# Altium footprint library Terminal.PcbLib: 35 footprints (part 2 of 3)
Each footprint in its own frame and in the unit in brackets; x right, y up, seen from the top. Pads: shape width x height; smd on the part's side, far side on the other; paste and mask are expansions set on the pad; w line width, h text height; cw(c..) or ccw(c..) is an arc to the next point about the centre after c.
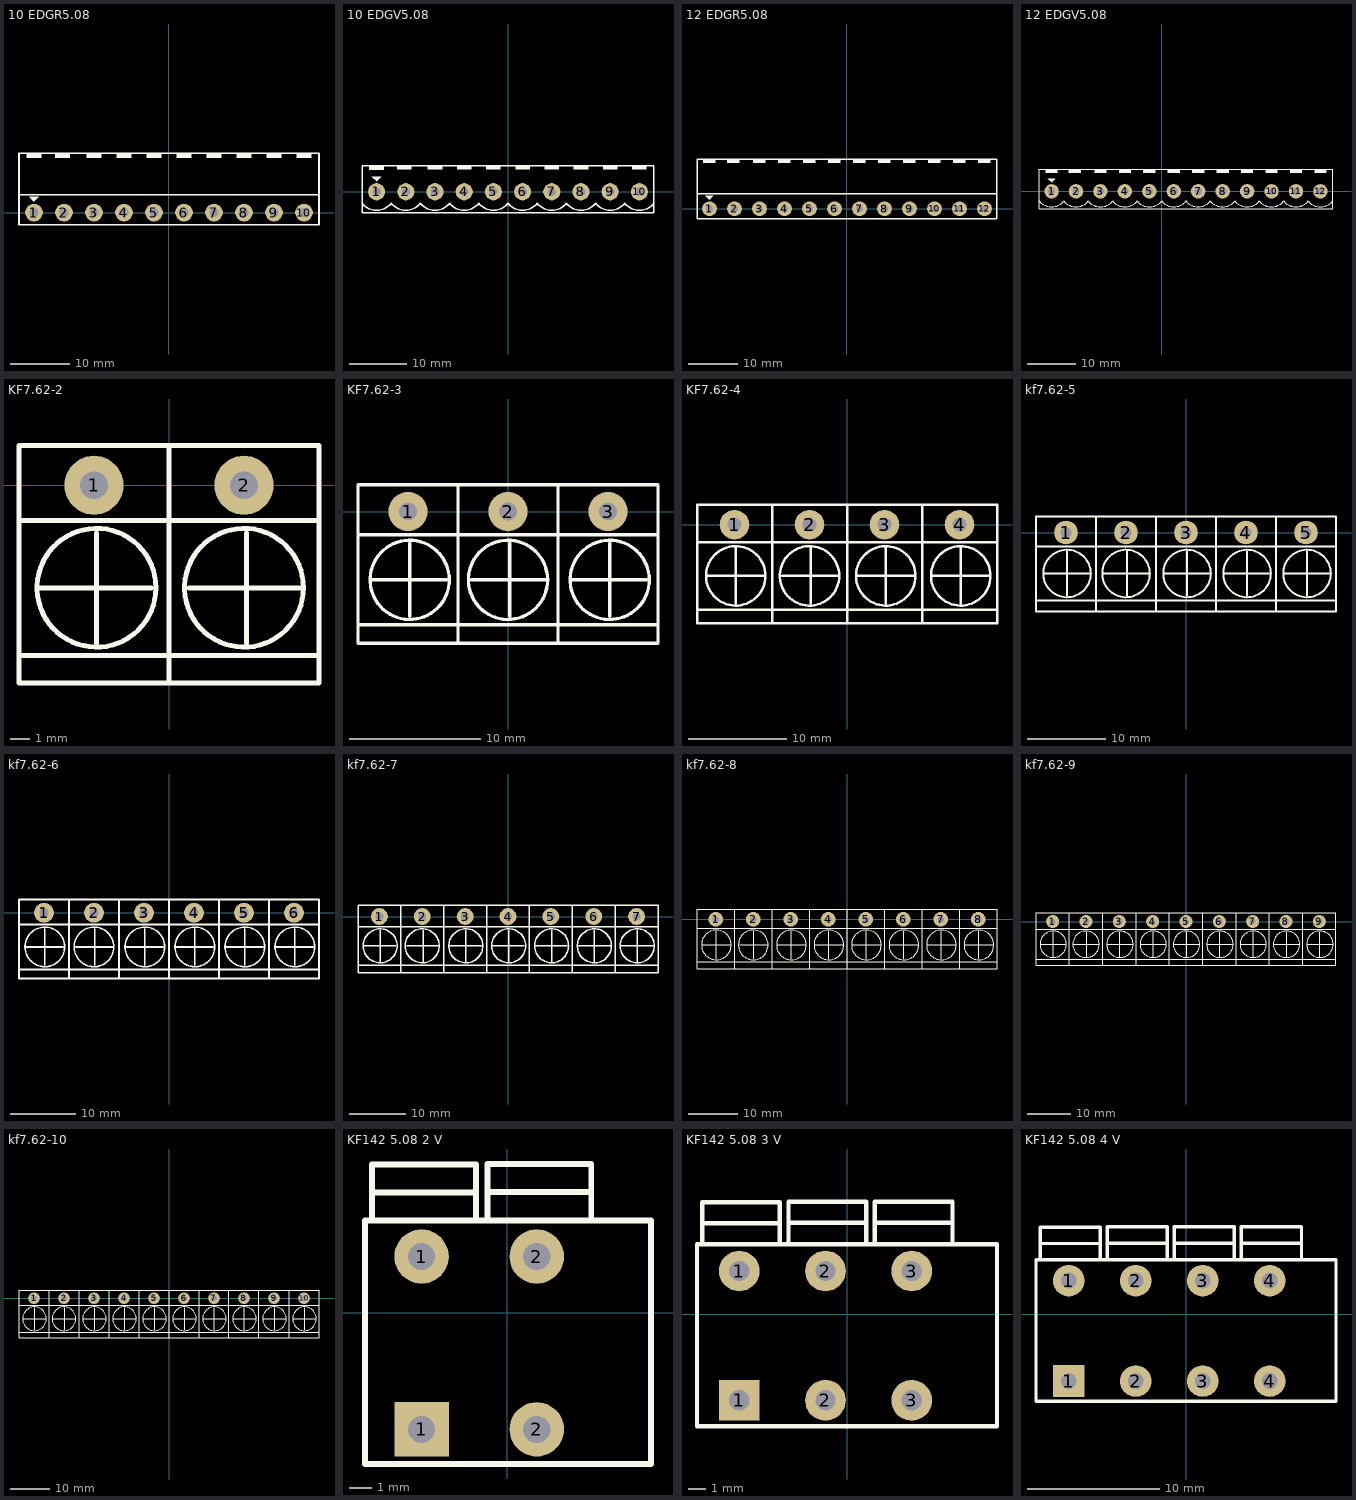
[diagram p1: the footprints below, top view; thin cyan lines are the x and y axes]

## 10 EDGR5.08 [mm]
pads (10):
  round 3 hole 1.5: 1(-22.86,0) 2(-17.78,0) 3(-12.7,0) 4(-7.62,0) 5(-2.54,0) 6(2.54,0) 7(7.62,0) 8(12.7,0) 9(17.78,0) 10(22.86,0)
Top Overlay:
  region: 19.05,10.033 16.51,10.033 16.51,9.271 19.05,9.271
  region: -21.613,10.015 -24.153,10.015 -24.153,9.253 -21.613,9.253
  region: 3.81,10.033 1.27,10.033 1.27,9.271 3.81,9.271
  region: -1.27,10.033 -3.81,10.033 -3.81,9.271 -1.27,9.271
  region: -6.35,10.033 -8.89,10.033 -8.89,9.271 -6.35,9.271
  region: -11.43,10.033 -13.97,10.033 -13.97,9.271 -11.43,9.271
  region: -16.764,10.033 -19.304,10.033 -19.304,9.271 -16.764,9.271
  region: 13.97,10.033 11.43,10.033 11.43,9.271 13.97,9.271
  region: 8.89,10.033 6.35,10.033 6.35,9.271 8.89,9.271
  region: 24.13,10.033 21.59,10.033 21.59,9.271 24.13,9.271
  region: -23.673,2.652 -22.047,2.652 -22.86,1.839
  lines w0.254: -25.375,3.025 25.4,3.025 ; -25.4,-2.032 -25.4,10.033 25.4,10.033 25.4,-2.032 -25.4,-2.032
3D body "cim0x9m5_right.step": height 8.48, standoff -3.38, extent 20.32,-2 25.4,10
3D body "cim0x9m5_right.step": height 8.48, standoff -3.38, extent 10.16,-2 15.24,10
3D body "cim0x9m5_right.step": height 8.48, standoff -3.38, extent 5.08,-2 10.16,10
3D body "cim0x9m5_right.step": height 8.48, standoff -3.38, extent 0,-2 5.08,10
3D body "cim0x9m5_right.step": height 8.48, standoff -3.38, extent -5.08,-2 0,10
3D body "cim0x9m5_right.step": height 8.48, standoff -3.38, extent -10.16,-2 -5.08,10
3D body "cim0x9m5_right.step": height 8.48, standoff -3.38, extent -15.24,-2 -10.16,10
3D body "cim0x9m5_right.step": height 8.48, standoff -3.38, extent -20.32,-2 -15.24,10
3D body "cim0x9m5_right.step": height 8.48, standoff -3.38, extent -25.4,-2 -20.32,10
3D body "cim0x9m5_right.step": height 8.48, standoff -3.38, extent 15.24,-2 20.32,10

## 10 EDGV5.08 [mm]
pads (10):
  round 3 hole 1.5: 1(-22.86,0) 2(-17.78,0) 3(-12.7,0) 4(-7.62,0) 5(-2.54,0) 6(2.54,0) 7(7.62,0) 8(12.7,0) 9(17.78,0) 10(22.86,0)
Top Overlay:
  region: 19.05,4.595 16.51,4.595 16.51,3.833 19.05,3.833
  region: -21.613,4.577 -24.153,4.577 -24.153,3.815 -21.613,3.815
  region: 3.81,4.595 1.27,4.595 1.27,3.833 3.81,3.833
  region: -1.27,4.595 -3.81,4.595 -3.81,3.833 -1.27,3.833
  region: -6.35,4.595 -8.89,4.595 -8.89,3.833 -6.35,3.833
  region: -11.43,4.595 -13.97,4.595 -13.97,3.833 -11.43,3.833
  region: -16.764,4.595 -19.304,4.595 -19.304,3.833 -16.764,3.833
  region: 13.97,4.595 11.43,4.595 11.43,3.833 13.97,3.833
  region: 8.89,4.595 6.35,4.595 6.35,3.833 8.89,3.833
  region: 24.13,4.595 21.59,4.595 21.59,3.833 24.13,3.833
  region: -23.673,2.652 -22.047,2.652 -22.86,1.839
  lines w0.254: -25.397,-2.012 ccw(c-22.86,0) -20.32,-2.008 ; -20.319,-2.009 ccw(c-17.78,0) -15.243,-2.012 ; -15.237,-2.012 ccw(c-12.7,0) -10.16,-2.008 ; -10.159,-2.009 ccw(c-7.62,0) -5.083,-2.012 ; -5.077,-2.012 ccw(c-2.54,0) 0,-2.008 ; 0.001,-2.009 ccw(c2.54,0) 5.077,-2.012 ; 5.083,-2.012 ccw(c7.62,0) 10.16,-2.008 ; 10.161,-2.009 ccw(c12.7,0) 15.237,-2.012 ; 15.243,-2.012 ccw(c17.78,0) 20.32,-2.008 ; 20.321,-2.009 ccw(c22.86,0) 25.397,-2.012 ; -25.4,-3.638 25.4,-3.638 25.4,4.562 -25.4,4.562 -25.4,-3.638
3D body "2EDGV-5.08-10P.stp": height 12.23, standoff -3.87, extent -25.4,-3.638 25.4,4.562

## 12 EDGR5.08 [mm]
pads (12):
  round 3 hole 1.5: 1(-27.94,0) 2(-22.86,0) 3(-17.78,0) 4(-12.7,0) 5(-7.62,0) 6(-2.54,0) 7(2.54,0) 8(7.62,0) 9(12.7,0) 10(17.78,0) 11(22.86,0) 12(27.94,0)
Top Overlay:
  region: 29.21,10.033 26.67,10.033 26.67,9.271 29.21,9.271
  region: 24.13,10.033 21.59,10.033 21.59,9.271 24.13,9.271
  region: 13.97,10.033 11.43,10.033 11.43,9.271 13.97,9.271
  region: -26.693,10.015 -29.233,10.015 -29.233,9.253 -26.693,9.253
  region: -1.27,10.033 -3.81,10.033 -3.81,9.271 -1.27,9.271
  region: -6.35,10.033 -8.89,10.033 -8.89,9.271 -6.35,9.271
  region: -11.43,10.033 -13.97,10.033 -13.97,9.271 -11.43,9.271
  region: -16.51,10.033 -19.05,10.033 -19.05,9.271 -16.51,9.271
  region: -21.844,10.033 -24.384,10.033 -24.384,9.271 -21.844,9.271
  region: 8.89,10.033 6.35,10.033 6.35,9.271 8.89,9.271
  region: 3.81,10.033 1.27,10.033 1.27,9.271 3.81,9.271
  region: 19.05,10.033 16.51,10.033 16.51,9.271 19.05,9.271
  region: -28.753,2.652 -27.127,2.652 -27.94,1.839
  lines w0.254: -30.455,3.025 30.48,3.025 ; -30.48,-2.032 -30.48,10.033 30.48,10.033 30.48,-2.032 -30.48,-2.032
3D body "cim0x9m5_right.step": height 8.48, standoff -3.38, extent -30.48,-2 -25.4,10
3D body "cim0x9m5_right.step": height 8.48, standoff -3.38, extent -25.4,-2 -20.32,10
3D body "cim0x9m5_right.step": height 8.48, standoff -3.38, extent -20.32,-2 -15.24,10
3D body "cim0x9m5_right.step": height 8.48, standoff -3.38, extent -15.24,-2 -10.16,10
3D body "cim0x9m5_right.step": height 8.48, standoff -3.38, extent -10.16,-2 -5.08,10
3D body "cim0x9m5_right.step": height 8.48, standoff -3.38, extent -5.08,-2 0,10
3D body "cim0x9m5_right.step": height 8.48, standoff -3.38, extent 0,-2 5.08,10
3D body "cim0x9m5_right.step": height 8.48, standoff -3.38, extent 5.08,-2 10.16,10
3D body "cim0x9m5_right.step": height 8.48, standoff -3.38, extent 10.16,-2 15.24,10
3D body "cim0x9m5_right.step": height 8.48, standoff -3.38, extent 15.24,-2 20.32,10
3D body "cim0x9m5_right.step": height 8.48, standoff -3.38, extent 20.32,-2 25.4,10
3D body "cim0x9m5_right.step": height 8.48, standoff -3.38, extent 25.4,-2 30.48,10

## 12 EDGV5.08 [mm]
pads (12):
  round 3 hole 1.5: 1(-22.86,0) 2(-17.78,0) 3(-12.7,0) 4(-7.62,0) 5(-2.54,0) 6(2.54,0) 7(7.62,0) 8(12.7,0) 9(17.78,0) 10(22.86,0) 11(27.94,0) 12(33.02,0)
Top Overlay:
  region: 29.21,4.595 26.67,4.595 26.67,3.833 29.21,3.833
  region: 34.29,4.595 31.75,4.595 31.75,3.833 34.29,3.833
  region: 19.05,4.595 16.51,4.595 16.51,3.833 19.05,3.833
  region: -21.613,4.577 -24.153,4.577 -24.153,3.815 -21.613,3.815
  region: 3.81,4.595 1.27,4.595 1.27,3.833 3.81,3.833
  region: -1.27,4.595 -3.81,4.595 -3.81,3.833 -1.27,3.833
  region: -6.35,4.595 -8.89,4.595 -8.89,3.833 -6.35,3.833
  region: -11.43,4.595 -13.97,4.595 -13.97,3.833 -11.43,3.833
  region: -16.764,4.595 -19.304,4.595 -19.304,3.833 -16.764,3.833
  region: 13.97,4.595 11.43,4.595 11.43,3.833 13.97,3.833
  region: 8.89,4.595 6.35,4.595 6.35,3.833 8.89,3.833
  region: 24.13,4.595 21.59,4.595 21.59,3.833 24.13,3.833
  region: -23.673,2.652 -22.047,2.652 -22.86,1.839
  lines w0.254: -25.397,-2.012 ccw(c-22.86,0) -20.32,-2.008 ; -20.319,-2.009 ccw(c-17.78,0) -15.243,-2.012 ; -15.237,-2.012 ccw(c-12.7,0) -10.16,-2.008 ; -10.159,-2.009 ccw(c-7.62,0) -5.083,-2.012 ; -5.077,-2.012 ccw(c-2.54,0) 0,-2.008 ; 0.001,-2.009 ccw(c2.54,0) 5.077,-2.012 ; 5.083,-2.012 ccw(c7.62,0) 10.16,-2.008 ; 10.161,-2.009 ccw(c12.7,0) 15.237,-2.012 ; 15.243,-2.012 ccw(c17.78,0) 20.32,-2.008 ; 20.321,-2.009 ccw(c22.86,0) 25.397,-2.012 ; 25.403,-2.012 ccw(c27.94,0) 30.48,-2.008 ; 30.481,-2.009 ccw(c33.02,0) 35.557,-2.012 ; -25.4,-3.638 35.56,-3.638 35.56,4.562 -25.4,4.562 -25.4,-3.638
3D body "2EDGV-5.08-02P.stp": height 12.23, standoff -3.87, extent 25.4,-3.638 35.56,4.562
3D body "2EDGV-5.08-10P.stp": height 12.23, standoff -3.87, extent -25.4,-3.638 25.4,4.562

## KF7.62-2 [mm]
pads (2):
  round 3 hole 1.4: 1(-3.81,0) 2(3.81,0)
Top Overlay:
  circle w0.254: c-3.683,-5.207 r3.019
  circle w0.254: c3.81,-5.207 r3.019
  lines w0.254: -7.62,-8.636 7.62,-8.636 ; -7.62,-1.778 -0.127,-1.778 7.62,-1.778 ; -6.604,-5.207 -0.889,-5.207 ; -3.683,-8.001 -3.683,-2.413 ; 0,-10.033 0,2.032 ; 1.016,-5.207 6.731,-5.207 ; 3.937,-8.001 3.937,-2.413 ; -7.62,-10.033 7.62,-10.033 7.62,2.032 -7.62,2.032 -7.62,0 -7.62,-10.033
3D body "KF7.62-2P.step": height 12.53, standoff -3.87, extent -7.62,-10 7.62,2

## KF7.62-3 [mm]
pads (3):
  round 3 hole 1.4: 1(-7.62,0) 2(0,0) 3(7.62,0)
Top Overlay:
  circle w0.254: c7.747,-5.207 r3.019
  circle w0.254: c0,-5.207 r3.019
  circle w0.254: c-7.493,-5.207 r3.019
  lines w0.254: -11.43,-8.636 11.303,-8.636 ; -11.43,-1.778 -3.937,-1.778 3.81,-1.778 11.303,-1.778 ; -10.414,-5.207 -4.699,-5.207 ; -7.493,-8.001 -7.493,-2.413 ; -3.81,-10.033 -3.81,2.032 ; -2.794,-5.207 2.921,-5.207 ; 0.127,-8.001 0.127,-2.413 ; 4.826,-5.207 10.541,-5.207 ; 7.747,-8.001 7.747,-2.413 ; 3.81,-10.033 11.43,-10.033 11.43,2.032 3.81,2.032 ; 3.81,-10.033 3.81,0 3.81,2.032 ; 3.81,-10.033 -11.43,-10.033 -11.43,0 -11.43,2.032 3.81,2.032
3D body "KF7.62-3P.step": height 12.53, standoff -3.87, extent -11.43,-10 11.43,2

## KF7.62-4 [mm]
pads (4):
  round 3 hole 1.4: 1(-11.43,0) 2(-3.81,0) 3(3.81,0) 4(11.43,0)
Top Overlay:
  circle w0.254: c3.937,-5.207 r3.019
  circle w0.254: c-3.81,-5.207 r3.019
  circle w0.254: c-11.303,-5.207 r3.019
  circle w0.254: c11.557,-5.207 r3.019
  lines w0.254: -15.24,-8.636 15.24,-8.636 ; -15.24,-1.778 -7.747,-1.778 0,-1.778 7.62,-1.778 15.24,-1.778 ; -14.224,-5.207 -8.509,-5.207 ; -11.303,-8.001 -11.303,-2.413 ; -7.62,-10.033 -7.62,2.032 ; -6.604,-5.207 -0.889,-5.207 ; -3.683,-8.001 -3.683,-2.413 ; 1.016,-5.207 6.731,-5.207 ; 3.937,-8.001 3.937,-2.413 ; 8.636,-5.207 14.351,-5.207 ; 11.557,-8.001 11.557,-2.413 ; 0,-10.033 7.62,-10.033 ; 0,-10.033 0,0 0,2.032 ; 0,-10.033 -15.24,-10.033 -15.24,0 -15.24,2.032 0,2.032 ; 0,2.032 7.62,2.032 ; 7.62,-10.033 7.62,2.032 ; 7.62,-10.033 15.24,-10.033 15.24,2.032 7.62,2.032
3D body "KF7.62-4P.step": height 12.53, standoff -3.87, extent -15.24,-10 15.24,2

## kf7.62-5 [mm]
pads (5):
  round 3 hole 1.4: 1(-15.24,0) 2(-7.62,0) 3(0,0) 4(7.62,0) 5(15.24,0)
Top Overlay:
  circle w0.254: c7.747,-5.207 r3.019
  circle w0.254: c-15.113,-5.207 r3.019
  circle w0.254: c-7.62,-5.207 r3.019
  circle w0.254: c0.127,-5.207 r3.019
  circle w0.254: c15.367,-5.207 r3.019
  lines w0.254: -19.05,-8.636 19.05,-8.636 ; -19.05,-1.778 -11.557,-1.778 -3.81,-1.778 3.81,-1.778 11.43,-1.778 19.05,-1.778 ; -18.034,-5.207 -12.319,-5.207 ; -15.113,-8.001 -15.113,-2.413 ; -11.43,-10.033 -11.43,2.032 ; -10.414,-5.207 -4.699,-5.207 ; -7.493,-8.001 -7.493,-2.413 ; -2.794,-5.207 2.921,-5.207 ; 0.127,-8.001 0.127,-2.413 ; 4.826,-5.207 10.541,-5.207 ; 7.747,-8.001 7.747,-2.413 ; 12.446,-5.207 18.161,-5.207 ; 15.367,-8.001 15.367,-2.413 ; -3.81,-10.033 -19.05,-10.033 -19.05,0 -19.05,2.032 -3.81,2.032 ; -3.81,-10.033 -3.81,0 -3.81,2.032 ; -3.81,-10.033 3.81,-10.033 ; -3.81,2.032 3.81,2.032 ; 3.81,-10.033 11.43,-10.033 ; 3.81,-10.033 3.81,2.032 ; 3.81,2.032 11.43,2.032 ; 11.43,-10.033 11.43,2.032 ; 11.43,-10.033 19.05,-10.033 19.05,2.032 11.43,2.032
3D body "KF7.62-5P.step": height 12.53, standoff -3.87, extent -19.05,-10 19.05,2

## kf7.62-6 [mm]
pads (6):
  round 3 hole 1.4: 1(-19.05,0) 2(-11.43,0) 3(-3.81,0) 4(3.81,0) 5(11.43,0) 6(19.05,0)
Top Overlay:
  circle w0.254: c3.937,-5.207 r3.019
  circle w0.254: c-18.923,-5.207 r3.019
  circle w0.254: c-11.43,-5.207 r3.019
  circle w0.254: c-3.683,-5.207 r3.019
  circle w0.254: c19.177,-5.207 r3.019
  circle w0.254: c11.557,-5.207 r3.019
  lines w0.254: -22.86,-8.636 22.733,-8.636 ; -22.86,-1.778 -15.367,-1.778 -7.62,-1.778 0,-1.778 7.62,-1.778 15.24,-1.778 22.86,-1.778 ; -21.844,-5.207 -16.129,-5.207 ; -18.923,-8.001 -18.923,-2.413 ; -15.24,-10.033 -15.24,2.032 ; -14.224,-5.207 -8.509,-5.207 ; -11.303,-8.001 -11.303,-2.413 ; -6.604,-5.207 -0.889,-5.207 ; -3.683,-8.001 -3.683,-2.413 ; 1.016,-5.207 6.731,-5.207 ; 3.937,-8.001 3.937,-2.413 ; 8.636,-5.207 14.351,-5.207 ; 11.557,-8.001 11.557,-2.413 ; 16.256,-5.207 21.971,-5.207 ; 19.177,-8.001 19.177,-2.413 ; -7.62,-10.033 -22.86,-10.033 -22.86,0 -22.86,2.032 -7.62,2.032 ; -7.62,-10.033 -7.62,0 -7.62,2.032 ; -7.62,-10.033 0,-10.033 ; -7.62,2.032 0,2.032 ; 0,-10.033 7.62,-10.033 ; 0,-10.033 0,2.032 ; 0,2.032 7.62,2.032 ; 7.62,-10.033 7.62,2.032 ; 7.62,-10.033 15.24,-10.033 ; 7.62,2.032 15.24,2.032 ; 15.24,-10.033 22.86,-10.033 22.86,2.032 15.24,2.032 ; 15.24,-10.033 15.24,2.032
3D body "KF7.62-6P.step": height 12.53, standoff -3.87, extent -22.86,-10 22.86,2

## kf7.62-7 [mm]
pads (7):
  round 3 hole 1.4: 1(-22.86,0) 2(-15.24,0) 3(-7.62,0) 4(0,0) 5(7.62,0) 6(15.24,0) 7(22.86,0)
Top Overlay:
  circle w0.254: c7.747,-5.207 r3.019
  circle w0.254: c15.367,-5.207 r3.019
  circle w0.254: c-7.493,-5.207 r3.019
  circle w0.254: c-15.24,-5.207 r3.019
  circle w0.254: c-22.733,-5.207 r3.019
  circle w0.254: c0.127,-5.207 r3.019
  circle w0.254: c22.987,-5.207 r3.019
  lines w0.254: -26.67,-8.636 26.67,-8.636 ; -26.67,-1.778 -19.177,-1.778 -11.43,-1.778 -3.81,-1.778 3.81,-1.778 11.43,-1.778 19.05,-1.778 26.67,-1.778 ; -25.654,-5.207 -19.939,-5.207 ; -22.733,-8.001 -22.733,-2.413 ; -19.05,-10.033 -19.05,2.032 ; -18.034,-5.207 -12.319,-5.207 ; -15.113,-8.001 -15.113,-2.413 ; -10.414,-5.207 -4.699,-5.207 ; -7.493,-8.001 -7.493,-2.413 ; -2.794,-5.207 2.921,-5.207 ; 0.127,-8.001 0.127,-2.413 ; 4.826,-5.207 10.541,-5.207 ; 7.747,-8.001 7.747,-2.413 ; 12.446,-5.207 18.161,-5.207 ; 15.367,-8.001 15.367,-2.413 ; 20.066,-5.207 25.781,-5.207 ; 22.987,-8.001 22.987,-2.413 ; -11.43,-10.033 -3.81,-10.033 ; -11.43,-10.033 -11.43,0 -11.43,2.032 ; -11.43,-10.033 -26.67,-10.033 -26.67,0 -26.67,2.032 -11.43,2.032 ; -11.43,2.032 -3.81,2.032 ; -3.81,-10.033 -3.81,2.032 ; -3.81,-10.033 3.81,-10.033 ; -3.81,2.032 3.81,2.032 ; 3.81,-10.033 11.43,-10.033 ; 3.81,-10.033 3.81,2.032 ; 3.81,2.032 11.43,2.032 ; 11.43,-10.033 11.43,2.032 ; 11.43,-10.033 19.05,-10.033 ; 11.43,2.032 19.05,2.032 ; 19.05,-10.033 19.05,2.032 ; 19.05,-10.033 26.67,-10.033 26.67,2.032 19.05,2.032
3D body "KF7.62-7P.step": height 12.4, standoff -4, extent -26.67,-10 26.67,2

## kf7.62-8 [mm]
pads (8):
  round 3 hole 1.4: 1(-26.67,0) 2(-19.05,0) 3(-11.43,0) 4(-3.81,0) 5(3.81,0) 6(11.43,0) 7(19.05,0) 8(26.67,0)
Top Overlay:
  circle w0.254: c3.937,-5.207 r3.019
  circle w0.254: c11.557,-5.207 r3.019
  circle w0.254: c-11.303,-5.207 r3.019
  circle w0.254: c-19.05,-5.207 r3.019
  circle w0.254: c-26.543,-5.207 r3.019
  circle w0.254: c-3.683,-5.207 r3.019
  circle w0.254: c19.177,-5.207 r3.019
  circle w0.254: c26.797,-5.207 r3.019
  lines w0.254: -30.48,-8.636 30.353,-8.636 ; -30.48,-1.778 -22.987,-1.778 -15.24,-1.778 -7.62,-1.778 0,-1.778 7.62,-1.778 15.24,-1.778 22.86,-1.778 30.48,-1.778 ; -29.464,-5.207 -23.749,-5.207 ; -26.543,-8.001 -26.543,-2.413 ; -22.86,-10.033 -22.86,2.032 ; -21.844,-5.207 -16.129,-5.207 ; -18.923,-8.001 -18.923,-2.413 ; -14.224,-5.207 -8.509,-5.207 ; -11.303,-8.001 -11.303,-2.413 ; -6.604,-5.207 -0.889,-5.207 ; -3.683,-8.001 -3.683,-2.413 ; 1.016,-5.207 6.731,-5.207 ; 3.937,-8.001 3.937,-2.413 ; 8.636,-5.207 14.351,-5.207 ; 11.557,-8.001 11.557,-2.413 ; 16.256,-5.207 21.971,-5.207 ; 19.177,-8.001 19.177,-2.413 ; 23.876,-5.207 29.591,-5.207 ; 26.797,-8.001 26.797,-2.413 ; -15.24,-10.033 -7.62,-10.033 ; -15.24,-10.033 -15.24,0 -15.24,2.032 ; -15.24,-10.033 -30.48,-10.033 -30.48,0 -30.48,2.032 -15.24,2.032 ; -15.24,2.032 -7.62,2.032 ; -7.62,-10.033 -7.62,2.032 ; -7.62,-10.033 0,-10.033 ; -7.62,2.032 0,2.032 ; 0,-10.033 7.62,-10.033 ; 0,-10.033 0,2.032 ; 0,2.032 7.62,2.032 ; 7.62,-10.033 7.62,2.032 ; 7.62,-10.033 15.24,-10.033 ; 7.62,2.032 15.24,2.032 ; 15.24,-10.033 15.24,2.032 ; 15.24,-10.033 22.86,-10.033 ; 15.24,2.032 22.86,2.032 ; 22.86,-10.033 22.86,2.032 ; 22.86,-10.033 30.48,-10.033 30.48,2.032 22.86,2.032
3D body "KF7.62-8P.step": height 12.53, standoff -3.87, extent -30.48,-10 30.48,2

## kf7.62-9 [mm]
pads (9):
  round 3 hole 1.4: 1(-30.48,0) 2(-22.86,0) 3(-15.24,0) 4(-7.62,0) 5(0,0) 6(7.62,0) 7(15.24,0) 8(22.86,0) 9(30.48,0)
Top Overlay:
  circle w0.254: c22.987,-5.207 r3.019
  circle w0.254: c15.367,-5.207 r3.019
  circle w0.254: c30.607,-5.207 r3.019
  circle w0.254: c-7.493,-5.207 r3.019
  circle w0.254: c-30.353,-5.207 r3.019
  circle w0.254: c-22.86,-5.207 r3.019
  circle w0.254: c-15.113,-5.207 r3.019
  circle w0.254: c7.747,-5.207 r3.019
  circle w0.254: c0.127,-5.207 r3.019
  lines w0.254: -34.29,-8.636 34.29,-8.636 ; -34.29,-1.778 -26.797,-1.778 -19.05,-1.778 -11.43,-1.778 -3.81,-1.778 3.81,-1.778 11.43,-1.778 19.05,-1.778 26.67,-1.778 34.29,-1.778 ; -33.274,-5.207 -27.559,-5.207 ; -30.353,-8.001 -30.353,-2.413 ; -26.67,-10.033 -26.67,2.032 ; -25.654,-5.207 -19.939,-5.207 ; -22.733,-8.001 -22.733,-2.413 ; -18.034,-5.207 -12.319,-5.207 ; -15.113,-8.001 -15.113,-2.413 ; -10.414,-5.207 -4.699,-5.207 ; -7.493,-8.001 -7.493,-2.413 ; -2.794,-5.207 2.921,-5.207 ; 0.127,-8.001 0.127,-2.413 ; 4.826,-5.207 10.541,-5.207 ; 7.747,-8.001 7.747,-2.413 ; 12.446,-5.207 18.161,-5.207 ; 15.367,-8.001 15.367,-2.413 ; 20.066,-5.207 25.781,-5.207 ; 22.987,-8.001 22.987,-2.413 ; 27.686,-5.207 33.401,-5.207 ; 30.607,-8.001 30.607,-2.413 ; -19.05,-10.033 -34.29,-10.033 -34.29,0 -34.29,2.032 -19.05,2.032 ; -19.05,-10.033 -19.05,0 -19.05,2.032 ; -19.05,-10.033 -11.43,-10.033 ; -19.05,2.032 -11.43,2.032 ; -11.43,-10.033 -3.81,-10.033 ; -11.43,-10.033 -11.43,2.032 ; -11.43,2.032 -3.81,2.032 ; -3.81,-10.033 -3.81,2.032 ; -3.81,-10.033 3.81,-10.033 ; -3.81,2.032 3.81,2.032 ; 3.81,-10.033 11.43,-10.033 ; 3.81,-10.033 3.81,2.032 ; 3.81,2.032 11.43,2.032 ; 11.43,-10.033 19.05,-10.033 ; 11.43,-10.033 11.43,2.032 ; 11.43,2.032 19.05,2.032 ; 19.05,-10.033 26.67,-10.033 ; 19.05,-10.033 19.05,2.032 ; 19.05,2.032 26.67,2.032 ; 26.67,-10.033 26.67,2.032 ; 26.67,-10.033 34.29,-10.033 34.29,2.032 26.67,2.032
3D body "KF7.62-9P.step": height 12.53, standoff -3.87, extent -34.29,-10 34.29,2

## kf7.62-10 [mm]
pads (10):
  round 3 hole 1.4: 1(-34.29,0) 2(-26.67,0) 3(-19.05,0) 4(-11.43,0) 5(-3.81,0) 6(3.81,0) 7(11.43,0) 8(19.05,0) 9(26.67,0) 10(34.29,0)
Top Overlay:
  circle w0.254: c19.177,-5.207 r3.019
  circle w0.254: c11.557,-5.207 r3.019
  circle w0.254: c34.417,-5.207 r3.019
  circle w0.254: c26.797,-5.207 r3.019
  circle w0.254: c-11.303,-5.207 r3.019
  circle w0.254: c-34.163,-5.207 r3.019
  circle w0.254: c-26.67,-5.207 r3.019
  circle w0.254: c-18.923,-5.207 r3.019
  circle w0.254: c3.937,-5.207 r3.019
  circle w0.254: c-3.683,-5.207 r3.019
  lines w0.254: -38.1,-8.636 7.493,-8.636 ; -38.1,-1.778 -30.607,-1.778 -22.86,-1.778 -15.24,-1.778 -7.62,-1.778 0,-1.778 7.62,-1.778 15.24,-1.778 22.86,-1.778 30.48,-1.778 38.1,-1.778 ; -37.084,-5.207 -31.369,-5.207 ; -34.163,-8.001 -34.163,-2.413 ; -30.48,-10.033 -30.48,2.032 ; -29.464,-5.207 -23.749,-5.207 ; -26.543,-8.001 -26.543,-2.413 ; -21.844,-5.207 -16.129,-5.207 ; -18.923,-8.001 -18.923,-2.413 ; -14.224,-5.207 -8.509,-5.207 ; -11.303,-8.001 -11.303,-2.413 ; -7.62,-8.636 37.973,-8.636 ; -6.604,-5.207 -0.889,-5.207 ; -3.683,-8.001 -3.683,-2.413 ; 1.016,-5.207 6.731,-5.207 ; 3.937,-8.001 3.937,-2.413 ; 8.636,-5.207 14.351,-5.207 ; 11.557,-8.001 11.557,-2.413 ; 16.256,-5.207 21.971,-5.207 ; 19.177,-8.001 19.177,-2.413 ; 23.876,-5.207 29.591,-5.207 ; 26.797,-8.001 26.797,-2.413 ; 31.496,-5.207 37.211,-5.207 ; 34.417,-8.001 34.417,-2.413 ; -22.86,-10.033 -38.1,-10.033 -38.1,0 -38.1,2.032 -22.86,2.032 ; -22.86,-10.033 -22.86,0 -22.86,2.032 ; -22.86,-10.033 -15.24,-10.033 ; -22.86,2.032 -15.24,2.032 ; -15.24,-10.033 -7.62,-10.033 ; -15.24,-10.033 -15.24,2.032 ; -15.24,2.032 -7.62,2.032 ; -7.62,-10.033 -7.62,2.032 ; -7.62,-10.033 0,-10.033 ; -7.62,2.032 0,2.032 ; 0,-10.033 7.62,-10.033 ; 0,-10.033 0,2.032 ; 0,2.032 7.62,2.032 ; 7.62,-10.033 15.24,-10.033 ; 7.62,-10.033 7.62,2.032 ; 7.62,2.032 15.24,2.032 ; 15.24,-10.033 22.86,-10.033 ; 15.24,-10.033 15.24,2.032 ; 15.24,2.032 22.86,2.032 ; 22.86,-10.033 22.86,2.032 ; 22.86,-10.033 30.48,-10.033 ; 22.86,2.032 30.48,2.032 ; 30.48,-10.033 38.1,-10.033 38.1,2.032 30.48,2.032 ; 30.48,-10.033 30.48,2.032
3D body "KF7.62-10P.step": height 12.53, standoff -3.87, extent -38.1,-10 38.1,2

## KF142 5.08 2 V [mm] "pitch 5.08mm"
pads (4):
  rect 2.4x2.4 hole 1.2: 1(-3.773,-5.142)
  round 2.4 hole 1.2: 1(-3.773,2.478) 2(1.307,-5.142) 2(1.307,2.478)
Top Overlay:
  lines w0.254: -5.952,4.062 -5.952,6.535 -1.379,6.535 -1.379,4.083 ; -5.952,5.298 -1.379,5.298 ; -0.868,4.083 -0.868,6.556 3.706,6.556 3.706,4.104 ; -0.868,5.319 3.706,5.319 ; -6.263,-6.666 6.337,-6.666 6.337,4.062 -6.263,4.062 -6.263,-6.666
3D body "KF142 2.STEP": height 14.23, standoff -3.37, extent -6.263,-6.666 6.337,6.534

## KF142 5.08 3 V [mm] "pitch 5.08mm"
pads (6):
  rect 2.4x2.4 hole 1.2: 1(-6.35,-5.076)
  round 2.4 hole 1.2: 1(-6.35,2.544) 2(-1.27,-5.076) 2(-1.27,2.544) 3(3.81,-5.076) 3(3.81,2.544)
Top Overlay:
  lines w0.254: -8.529,4.127 -8.529,6.6 -3.955,6.6 -3.955,4.127 ; -8.529,5.364 -3.955,5.364 ; -3.444,4.127 -3.444,6.621 1.129,6.621 1.129,4.127 ; -3.444,5.385 1.129,5.385 ; 1.64,4.127 1.64,6.621 6.214,6.621 6.214,4.127 ; 1.64,5.385 6.214,5.385 ; -8.84,-6.6 -8.84,4.127 8.84,4.127 8.84,-6.6 -8.84,-6.6
3D body "KF142 3.STEP": height 14.1, standoff -3.5, extent -8.84,-6.6 8.84,6.6

## KF142 5.08 4 V [mm] "pitch 5.08mm"
pads (8):
  rect 2.4x2.4 hole 1.2: 1(-8.89,-5.076)
  round 2.4 hole 1.2: 1(-8.89,2.544) 2(-3.81,-5.076) 2(-3.81,2.544) 3(1.27,-5.076) 3(1.27,2.544) 4(6.35,-5.076) 4(6.35,2.544)
Top Overlay:
  lines w0.254: -11.069,4.127 -11.069,6.6 -6.495,6.6 -6.495,4.127 ; -11.069,5.364 -6.495,5.364 ; -5.984,4.127 -5.984,6.621 -1.411,6.621 -1.411,4.127 ; -5.984,5.385 -1.411,5.385 ; -0.9,4.127 -0.9,6.621 3.674,6.621 3.674,4.127 ; -0.9,5.385 3.674,5.385 ; 4.185,4.127 4.185,6.621 8.758,6.621 8.758,4.127 ; 4.185,5.385 8.758,5.385 ; -11.38,-6.6 -11.38,4.127 11.38,4.127 11.38,-6.6 -11.38,-6.6
3D body "KF142 4.STEP": height 14.1, standoff -3.5, extent -11.38,-6.6 11.38,6.6